# Altium schematic symbol library Analog Devices Amplifiers and Linear Comparators.SchLib: 160 symbols (part 3 of 9)
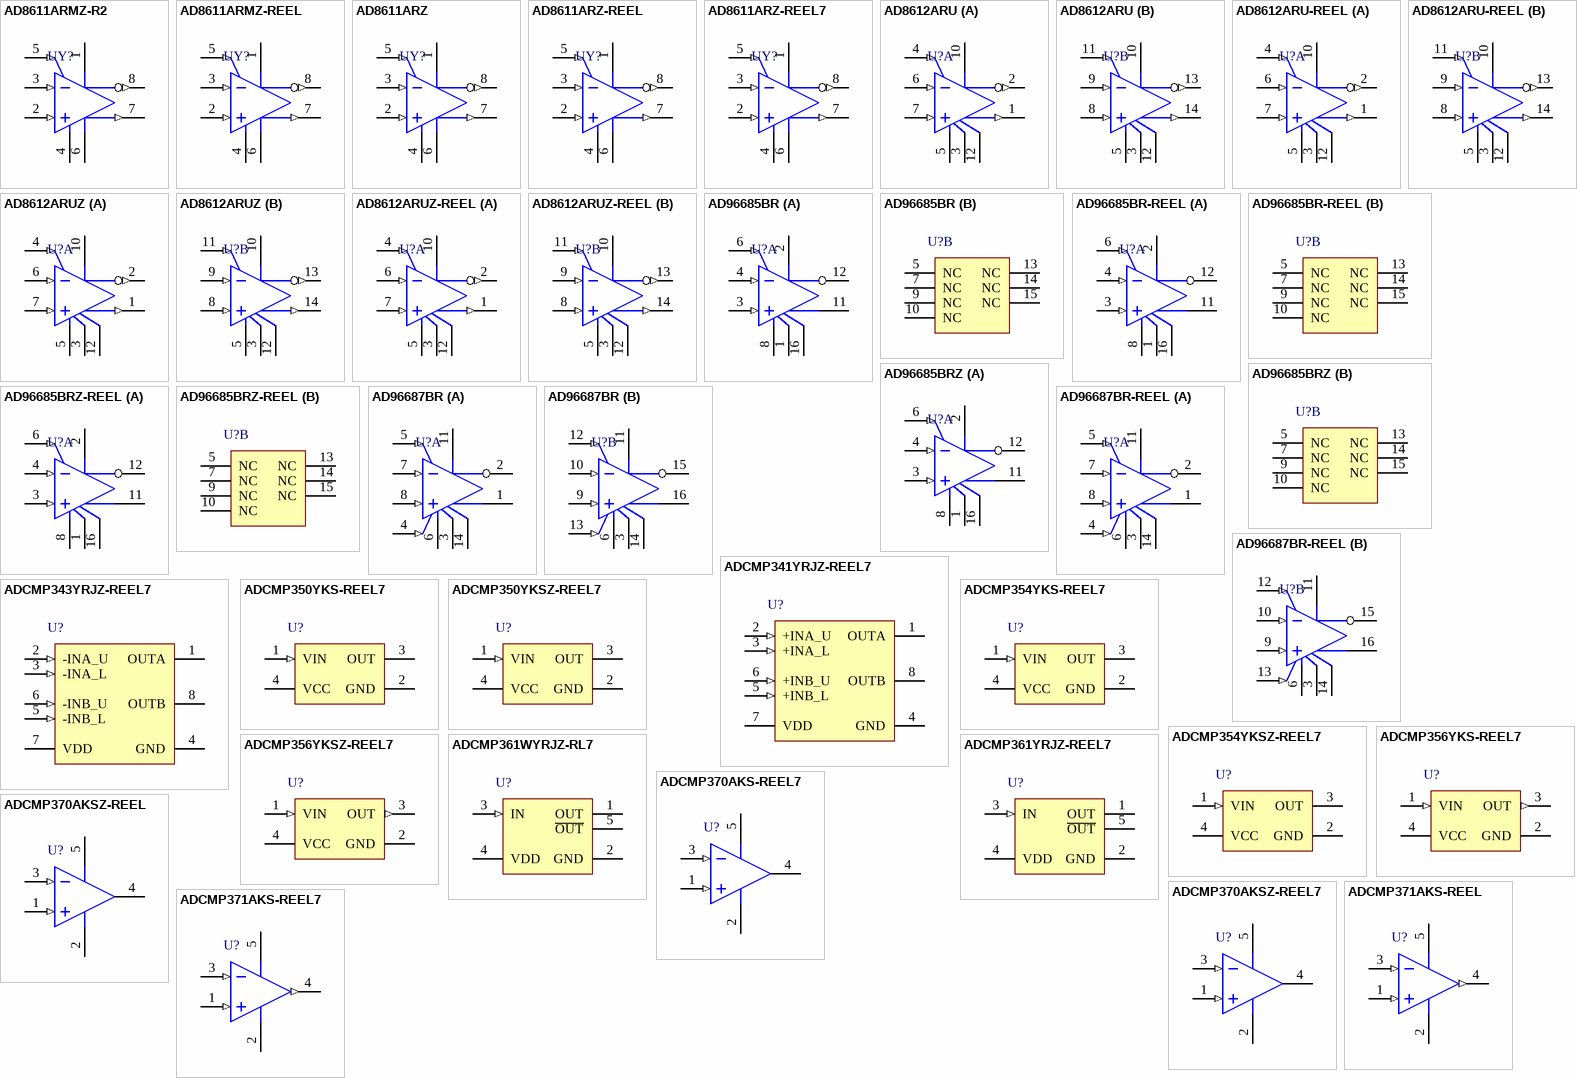
[diagram p9: symbols AD8611ARMZ-R2 to ADCMP371AKS-REEL7]

## AD96687BR
designator U?
Ultrafast Comparator, 5, - 5.2 V, 2.5 ns Delay, Commercial, 16-pin SOIC (R-16), Tube; Manufacturer: Analog Devices; PartNumber: AD96687BR; Input Range (V): -2.5 to 5.0; Voltage Supply (V): 5, -5.2; DatasheetVersion: Rev. D; PackageVersion: 060606-A, 06/2006; PackageReference: R-16; PackageDescription: 16-Pin Standard Small Outline Package, Body 9.9 x 3.9 mm, Pitch 1.27 mm; Supplier 1: Digi-Key; Supplier Part Number 1: AD96687BR-ND; Supplier 2: Mouser; Supplier Part Number 2: N/A; Packing: Tube; Mounting Technology: Surface Mount; Code_JEDEC: MS-012-AC; ComponentLink1Description: Manufacturer URL; ComponentLink1URL: http://www.analog.com/en/index.html; ComponentLink2Description: Datasheet; ComponentLink2URL: http://www.analog.com/static/imported-files/data_sheets/AD96685_96687.pdf; ComponentLink3Description: Package Specification; ComponentLink3URL: http://www.analog.com/static/imported-files/packages/PKG_PDF/SOIC_Narrow%20(R)/R_16.pdf; ComponentLink4Description: URL Link1; ComponentLink4URL: Product URL:http://www.analog.com/en/special-linear-functions/comparators/ad96687/products/product.html
footprint ADI-R-16_N (SOIC, 16-Leads, Body 9.9x3.9mm, Pitch 1.27mm, IPC Medium Density)
footprint ADI-R-16_L (SOIC, 16-Leads, Body 9.9x3.9mm, Pitch 1.27mm, IPC High Density)
footprint ADI-R-16_M (SOIC, 16-Leads, Body 9.9x3.9mm, Pitch 1.27mm, IPC Low Density)
pins on every part: 3 GND (power) "One of two grounds, but primarily associated with the digital ground. Both grounds should be connected together near the comparator.", 6 VS- (power) "Negative supply terminal, nominally -5.2 V.", 11 VS+ (power) "Positive supply terminal, nominally 5.0 V.", 14 GND (power) "One of two grounds, but primarily associated with the digital ground. Both grounds should be connected together near the comparator."
part A pins: 1 Q (oe) "One of two complementary outputs. Q will be at logic HIGH if the analog voltage at the NONINVERTING INPUT is greater than the analog voltage at the INVERTING INPUT (provided the comparator is in the "compare" mode). See (See Datasheet)", 2 ~{Q} (oe) "One of two complementary outputs. Q\ will be at logic LOW if the analog voltage at the NONINVERTING INPUT is greater than the analog voltage at the INVERTING INPUT (provided the comparator is in the "compare" mode). See (See Datasheet)", 4 LATCH ENABLE (in) "In the "compare" mode (logic HIGH), the output will track changes at the input of the comparator. In the "latch" mode (logic LOW), the output will reflect the input state just prior to the comparator being placed in the (See Datasheet)", 5 ~{LATCH ENABLE} (in) "In the "compare" mode (logic LOW), the output will track changes at the input of the comparator. In the "latch" mode (logic HIGH), the output will reflect the input state just prior to the comparator being placed in the (See Datasheet)", 7 -IN (in) "Inverting analog input of the differential input stage. The INVERTING INPUT must be driven in conjunction with the NONINVERTING INPUT.", 8 +IN (in) "Noninverting analog input of the differential input stage. The NONINVERTING INPUT must be driven in conjunction with the INVERTING INPUT."
part B pins: 9 +IN (in) "Noninverting analog input of the differential input stage. The NONINVERTING INPUT must be driven in conjunction with the INVERTING INPUT.", 10 -IN (in) "Inverting analog input of the differential input stage. The INVERTING INPUT must be driven in conjunction with the NONINVERTING INPUT.", 12 ~{LATCH ENABLE} (in) "In the "compare" mode (logic LOW), the output will track changes at the input of the comparator. In the "latch" mode (logic HIGH), the output will reflect the input state just prior to the comparator being placed in the (See Datasheet)", 13 LATCH ENABLE (in) "In the "compare" mode (logic HIGH), the output will track changes at the input of the comparator. In the "latch" mode (logic LOW), the output will reflect the input state just prior to the comparator being placed in the (See Datasheet)", 15 ~{Q} (oe) "One of two complementary outputs. Q\ will be at logic LOW if the analog voltage at the NONINVERTING INPUT is greater than the analog voltage at the INVERTING INPUT (provided the comparator is in the "compare" mode). See (See Datasheet)", 16 Q (oe) "One of two complementary outputs. Q will be at logic HIGH if the analog voltage at the NONINVERTING INPUT is greater than the analog voltage at the INVERTING INPUT (provided the comparator is in the "compare" mode). See (See Datasheet)"

## AD96687BR-REEL
designator U?
Ultrafast Comparator, 5, - 5.2 V, 2.5 ns Delay, Commercial, 16-pin SOIC (R-16), Reel; Manufacturer: Analog Devices; PartNumber: AD96687BR-REEL; Input Range (V): -2.5 to 5.0; Voltage Supply (V): 5, -5.2; DatasheetVersion: Rev. D; PackageVersion: 060606-A, 06/2006; PackageReference: R-16; PackageDescription: 16-Pin Standard Small Outline Package, Body 9.9 x 3.9 mm, Pitch 1.27 mm; Supplier 1: Digi-Key; Supplier Part Number 1: AD96687BR-REEL-ND; Supplier 2: Mouser; Supplier Part Number 2: N/A; Packing: Reel; Mounting Technology: Surface Mount; Code_JEDEC: MS-012-AC; ComponentLink1Description: Manufacturer URL; ComponentLink1URL: http://www.analog.com/en/index.html; ComponentLink2Description: Datasheet; ComponentLink2URL: http://www.analog.com/static/imported-files/data_sheets/AD96685_96687.pdf; ComponentLink3Description: Package Specification; ComponentLink3URL: http://www.analog.com/static/imported-files/packages/PKG_PDF/SOIC_Narrow%20(R)/R_16.pdf; ComponentLink4Description: URL Link1; ComponentLink4URL: Product URL:http://www.analog.com/en/special-linear-functions/comparators/ad96687/products/product.html
footprint ADI-R-16_N (SOIC, 16-Leads, Body 9.9x3.9mm, Pitch 1.27mm, IPC Medium Density)
footprint ADI-R-16_L (SOIC, 16-Leads, Body 9.9x3.9mm, Pitch 1.27mm, IPC High Density)
footprint ADI-R-16_M (SOIC, 16-Leads, Body 9.9x3.9mm, Pitch 1.27mm, IPC Low Density)
pins on every part: 3 GND (power) "One of two grounds, but primarily associated with the digital ground. Both grounds should be connected together near the comparator.", 6 VS- (power) "Negative supply terminal, nominally -5.2 V.", 11 VS+ (power) "Positive supply terminal, nominally 5.0 V.", 14 GND (power) "One of two grounds, but primarily associated with the digital ground. Both grounds should be connected together near the comparator."
part A pins: 1 Q (oe) "One of two complementary outputs. Q will be at logic HIGH if the analog voltage at the NONINVERTING INPUT is greater than the analog voltage at the INVERTING INPUT (provided the comparator is in the "compare" mode). See (See Datasheet)", 2 ~{Q} (oe) "One of two complementary outputs. Q\ will be at logic LOW if the analog voltage at the NONINVERTING INPUT is greater than the analog voltage at the INVERTING INPUT (provided the comparator is in the "compare" mode). See (See Datasheet)", 4 LATCH ENABLE (in) "In the "compare" mode (logic HIGH), the output will track changes at the input of the comparator. In the "latch" mode (logic LOW), the output will reflect the input state just prior to the comparator being placed in the (See Datasheet)", 5 ~{LATCH ENABLE} (in) "In the "compare" mode (logic LOW), the output will track changes at the input of the comparator. In the "latch" mode (logic HIGH), the output will reflect the input state just prior to the comparator being placed in the (See Datasheet)", 7 -IN (in) "Inverting analog input of the differential input stage. The INVERTING INPUT must be driven in conjunction with the NONINVERTING INPUT.", 8 +IN (in) "Noninverting analog input of the differential input stage. The NONINVERTING INPUT must be driven in conjunction with the INVERTING INPUT."
part B pins: 9 +IN (in) "Noninverting analog input of the differential input stage. The NONINVERTING INPUT must be driven in conjunction with the INVERTING INPUT.", 10 -IN (in) "Inverting analog input of the differential input stage. The INVERTING INPUT must be driven in conjunction with the NONINVERTING INPUT.", 12 ~{LATCH ENABLE} (in) "In the "compare" mode (logic LOW), the output will track changes at the input of the comparator. In the "latch" mode (logic HIGH), the output will reflect the input state just prior to the comparator being placed in the (See Datasheet)", 13 LATCH ENABLE (in) "In the "compare" mode (logic HIGH), the output will track changes at the input of the comparator. In the "latch" mode (logic LOW), the output will reflect the input state just prior to the comparator being placed in the (See Datasheet)", 15 ~{Q} (oe) "One of two complementary outputs. Q\ will be at logic LOW if the analog voltage at the NONINVERTING INPUT is greater than the analog voltage at the INVERTING INPUT (provided the comparator is in the "compare" mode). See (See Datasheet)", 16 Q (oe) "One of two complementary outputs. Q will be at logic HIGH if the analog voltage at the NONINVERTING INPUT is greater than the analog voltage at the INVERTING INPUT (provided the comparator is in the "compare" mode). See (See Datasheet)"

## ADCMP341YRJZ-REEL7
designator U?
Dual 0.275% Comparator and Reference with Programmable Hysteresis, 1.7 to 5.5 V, 10 us Delay, Commercial, 8-pin SOT23 (RJ-8), Reel; Manufacturer: Analog Devices; PartNumber: ADCMP341YRJZ-REEL7; Internal Reference: Yes; Supply Current: 6.5 to 7uA; DatasheetVersion: Rev. 0; PackageVersion: 121608-A, 12/2008; PackageReference: RJ-8; PackageDescription: 8-Pin Small Outline Transistor Package, Body 2.9 x 1.6 mm, Pitch 0.65 mm; Supplier 1: Digi-Key; Supplier Part Number 1: ADCMP341YRJZ-REEL7TR-ND; Supplier 2: Digi-Key; Supplier Part Number 2: ADCMP341YRJZ-REEL7CT-ND; Supplier 3: Digi-Key; Supplier Part Number 3: ADCMP341YRJZ-REEL7DKR-ND; Supplier 4: Mouser; Supplier Part Number 4: 584-ADCMP341YRJZR7; Packing: Reel; Voltage Supply (V): 1.7 to 5.5; Mounting Technology: Surface Mount; Code_JEDEC: MO-178-BA; ComponentLink1Description: Manufacturer URL; ComponentLink1URL: http://www.analog.com/en/index.html; ComponentLink2Description: Datasheet; ComponentLink2URL: http://www.analog.com/static/imported-files/data_sheets/ADCMP341_343.pdf; ComponentLink3Description: Package Specification; ComponentLink3URL: http://www.analog.com/static/imported-files/packages/PKG_PDF/SOT-23(RJ)/RJ_8.pdf; ComponentLink4Description: URL Link1; ComponentLink4URL: Product URL:http://www.analog.com/en/special-linear-functions/comparators/adcmp341/products/product.html
footprint ADI-RJ-8_V (SOT23, 8-Leads, Body 2.9x1.6mm, Pitch 0.65mm)
pins: 1 OUTA (oc) "Open-Drain Output for Comparator A.", 2 +INA_U (in) "Monitors Analog Input Voltage on Comparator A. Connect to the upper tap point of the resistor string. Connect internally to the noninverting input on the ADCMP341 or the inverting pin on the ADCMP343 via a mux controlled by (See Datasheet)", 3 +INA_L (in) "Monitors Analog Input Voltage on Comparator A. Connect to the lower tap point of the resistor string. Connect internally to the noninverting input on the ADCMP341 or the inverting pin on the ADCMP343 via a mux controlled by (See Datasheet)", 4 GND (power) "Ground.", 5 +INB_L (in) "Monitors Analog Input Voltage on Comparator B. Connect to the lower tap point of the resistor string. Connect internally to the noninverting input on the ADCMP341 or the inverting pin on the ADCMP343 via a mux controlled by (See Datasheet)", 6 +INB_U (in) "Monitors Analog Input Voltage on Comparator B. Connect to the upper tap point of the resistor string. Connect internally to the noninverting input on the ADCMP341 or the inverting pin on the ADCMP343 via a mux controlled by (See Datasheet)", 7 VDD (power) "Power Supply Pin.", 8 OUTB (oc) "Open-Drain Output for Comparator B."

## ADCMP343YRJZ-REEL7
designator U?
Dual 0.275% Comparator and Reference with Programmable Hysteresis, 1.7 to 5.5 V, 10 us Delay, Commercial, 8-pin SOT23 (RJ-8), Reel; Manufacturer: Analog Devices; PartNumber: ADCMP343YRJZ-REEL7; Internal Reference: Yes; Supply Current: 6.5 to 7uA; DatasheetVersion: Rev. 0; PackageVersion: 121608-A, 12/2008; PackageReference: RJ-8; PackageDescription: 8-Pin Small Outline Transistor Package, Body 2.9 x 1.6 mm, Pitch 0.65 mm; Supplier 1: Digi-Key; Supplier Part Number 1: ADCMP343YRJZ-REEL7TR-ND; Supplier 2: Digi-Key; Supplier Part Number 2: ADCMP343YRJZ-REEL7CT-ND; Supplier 3: Digi-Key; Supplier Part Number 3: ADCMP343YRJZ-REEL7DKR-ND; Supplier 4: Farnell; Supplier Part Number 4: 1838894; Supplier 5: Mouser; Supplier Part Number 5: 584-ADCMP343YRJZR7; Packing: Reel; Voltage Supply (V): 1.7 to 5.5; Mounting Technology: Surface Mount; Code_JEDEC: MO-178-BA; ComponentLink1Description: Manufacturer URL; ComponentLink1URL: http://www.analog.com/en/index.html; ComponentLink2Description: Datasheet; ComponentLink2URL: http://www.analog.com/static/imported-files/data_sheets/ADCMP341_343.pdf; ComponentLink3Description: Package Specification; ComponentLink3URL: http://www.analog.com/static/imported-files/packages/PKG_PDF/SOT-23(RJ)/RJ_8.pdf; ComponentLink4Description: URL Link1; ComponentLink4URL: Product URL:http://www.analog.com/en/special-linear-functions/comparators/adcmp343/products/product.html
footprint ADI-RJ-8_V (SOT23, 8-Leads, Body 2.9x1.6mm, Pitch 0.65mm)
pins: 1 OUTA (oc) "Open-Drain Output for Comparator A.", 2 -INA_U (in) "Monitors Analog Input Voltage on Comparator A. Connect to the upper tap point of the resistor string. Connect internally to the noninverting input on the ADCMP341 or the inverting pin on the ADCMP343 via a mux controlled by (See Datasheet)", 3 -INA_L (in) "Monitors Analog Input Voltage on Comparator A. Connect to the lower tap point of the resistor string. Connect internally to the noninverting input on the ADCMP341 or the inverting pin on the ADCMP343 via a mux controlled by (See Datasheet)", 4 GND (power) "Ground.", 5 -INB_L (in) "Monitors Analog Input Voltage on Comparator B. Connect to the lower tap point of the resistor string. Connect internally to the noninverting input on the ADCMP341 or the inverting pin on the ADCMP343 via a mux controlled by (See Datasheet)", 6 -INB_U (in) "Monitors Analog Input Voltage on Comparator B. Connect to the upper tap point of the resistor string. Connect internally to the noninverting input on the ADCMP341 or the inverting pin on the ADCMP343 via a mux controlled by (See Datasheet)", 7 VDD (power) "Power Supply Pin.", 8 OUTB (oc) "Open-Drain Output for Comparator B."

## ADCMP350YKS-REEL7
designator U?
Low Power Comparator, 2.25 to 5.5 V, 5 us Delay, Industrial, 4-pin SOT143_343 (KS-4), Reel; Manufacturer: Analog Devices; PartNumber: ADCMP350YKS-REEL7; Input Range (V): 0 to 22; Internal Reference: Yes; Supply Current: 10uA; DatasheetVersion: Rev. B; PackageVersion: 072809-A, 07/2009; PackageReference: KS-4; PackageDescription: 4-Pin Thin Shrink Small Outline Transistor Package, Body 2 x 1.25 mm, Pitch 1.3 mm; Supplier 1: Digi-Key; Supplier Part Number 1: ADCMP350YKS-REEL7TR-ND; Supplier 2: Digi-Key; Supplier Part Number 2: ADCMP350YKS-REEL7CT-ND; Supplier 3: Digi-Key; Supplier Part Number 3: ADCMP350YKS-REEL7DKR-ND; Supplier 4: Mouser; Supplier Part Number 4: 584-ADCMP350YKS-R7; Packing: Reel; Voltage Supply (V): 2.25 to 5.5; Mounting Technology: Surface Mount; ComponentLink1Description: Manufacturer URL; ComponentLink1URL: http://www.analog.com/en/index.html; ComponentLink2Description: Datasheet; ComponentLink2URL: http://www.analog.com/static/imported-files/data_sheets/ADCMP350_354_356.pdf; ComponentLink3Description: Package Specification; ComponentLink3URL: http:/www.analog.com/static/imported-files/packages/PKG_PDF/SC70(KS)/KS_4.pdf; ComponentLink4Description: URL Link1; ComponentLink4URL: Product URL:http://www.analog.com/en/special-linear-functions/comparators/adcmp350/products/product.html; ComponentLink5Description: URL Link2; ComponentLink5URL: Reference Circuit:http://www.analog.com/en/special-linear-functions/comparators/adcmp350/products/product.html#product-recommendations
footprint ADI-KS-4_N (SOT143_343, 4-Leads, Body 2x1.25mm, Pitch 1.3mm, IPC Medium Density)
footprint ADI-KS-4_L (SOT143_343, 4-Leads, Body 2x1.25mm, Pitch 1.3mm, IPC High Density)
footprint ADI-KS-4_M (SOT143_343, 4-Leads, Body 2x1.25mm, Pitch 1.3mm, IPC Low Density)
pins: 1 VIN (in) "Monitors Analog Input Voltage. Connected to inverting or noninverting input depending on the model number.", 2 GND (power) "Ground.", 3 OUT (oc) "Digital Output. Open-drain or push-pull options depending on the model number.", 4 VCC (power) "Power Supply."

## ADCMP350YKSZ-REEL7
designator U?
Low Power Comparator, 2.25 to 5.5 V, 5 us Delay, Industrial, 4-pin SOT143_343 (KS-4), Reel; Manufacturer: Analog Devices; PartNumber: ADCMP350YKSZ-REEL7; Input Range (V): 0 to 22; Internal Reference: Yes; Supply Current: 10uA; DatasheetVersion: Rev. B; PackageVersion: 072809-A, 07/2009; PackageReference: KS-4; PackageDescription: 4-Pin Thin Shrink Small Outline Transistor Package, Body 2 x 1.25 mm, Pitch 1.3 mm; Supplier 1: Digi-Key; Supplier Part Number 1: ADCMP350YKSZ-REEL7TR-ND; Supplier 2: Digi-Key; Supplier Part Number 2: ADCMP350YKSZ-REEL7CT-ND; Supplier 3: Digi-Key; Supplier Part Number 3: ADCMP350YKSZ-REEL7DKR-ND; Supplier 4: Farnell; Supplier Part Number 4: 2376802; Supplier 5: Farnell; Supplier Part Number 5: 2312826; Supplier 6: Farnell; Supplier Part Number 6: 2370356; Supplier 7: Mouser; Supplier Part Number 7: 584-ADCMP350YKSZR7; Packing: Reel; Voltage Supply (V): 2.25 to 5.5; Mounting Technology: Surface Mount; ComponentLink1Description: Manufacturer URL; ComponentLink1URL: http://www.analog.com/en/index.html; ComponentLink2Description: Datasheet; ComponentLink2URL: http://www.analog.com/static/imported-files/data_sheets/ADCMP350_354_356.pdf; ComponentLink3Description: Package Specification; ComponentLink3URL: http:/www.analog.com/static/imported-files/packages/PKG_PDF/SC70(KS)/KS_4.pdf; ComponentLink4Description: URL Link1; ComponentLink4URL: Product URL:http://www.analog.com/en/special-linear-functions/comparators/adcmp350/products/product.html; ComponentLink5Description: URL Link2; ComponentLink5URL: Reference Circuit:http://www.analog.com/en/special-linear-functions/comparators/adcmp350/products/product.html#product-recommendations
footprint ADI-KS-4_N (SOT143_343, 4-Leads, Body 2x1.25mm, Pitch 1.3mm, IPC Medium Density)
footprint ADI-KS-4_L (SOT143_343, 4-Leads, Body 2x1.25mm, Pitch 1.3mm, IPC High Density)
footprint ADI-KS-4_M (SOT143_343, 4-Leads, Body 2x1.25mm, Pitch 1.3mm, IPC Low Density)
pins: 1 VIN (in) "Monitors Analog Input Voltage. Connected to inverting or noninverting input depending on the model number.", 2 GND (power) "Ground.", 3 OUT (oc) "Digital Output. Open-drain or push-pull options depending on the model number.", 4 VCC (power) "Power Supply."

## ADCMP354YKS-REEL7
designator U?
Low Power Comparator, 2.25 to 5.5 V, 5 us Delay, Industrial, 4-pin SOT143_343 (KS-4), Reel; Manufacturer: Analog Devices; PartNumber: ADCMP354YKS-REEL7; Input Range (V): 0 to 22; Internal Reference: Yes; Supply Current: 10uA; DatasheetVersion: Rev. B; PackageVersion: 072809-A, 07/2009; PackageReference: KS-4; PackageDescription: 4-Pin Thin Shrink Small Outline Transistor Package, Body 2 x 1.25 mm, Pitch 1.3 mm; Supplier 1: Digi-Key; Supplier Part Number 1: ADCMP354YKS-REEL7TR-ND; Supplier 2: Digi-Key; Supplier Part Number 2: ADCMP354YKS-REEL7CT-ND; Supplier 3: Digi-Key; Supplier Part Number 3: ADCMP354YKS-REEL7DKR-ND; Supplier 4: Mouser; Supplier Part Number 4: 584-ADCMP354YKS-R7; Packing: Reel; Voltage Supply (V): 2.25 to 5.5; Mounting Technology: Surface Mount; ComponentLink1Description: Manufacturer URL; ComponentLink1URL: http://www.analog.com/en/index.html; ComponentLink2Description: Datasheet; ComponentLink2URL: http://www.analog.com/static/imported-files/data_sheets/ADCMP350_354_356.pdf; ComponentLink3Description: Package Specification; ComponentLink3URL: http:/www.analog.com/static/imported-files/packages/PKG_PDF/SC70(KS)/KS_4.pdf; ComponentLink4Description: URL Link1; ComponentLink4URL: Product URL:http://www.analog.com/en/special-linear-functions/comparators/adcmp354/products/product.html
footprint ADI-KS-4_N (SOT143_343, 4-Leads, Body 2x1.25mm, Pitch 1.3mm, IPC Medium Density)
footprint ADI-KS-4_L (SOT143_343, 4-Leads, Body 2x1.25mm, Pitch 1.3mm, IPC High Density)
footprint ADI-KS-4_M (SOT143_343, 4-Leads, Body 2x1.25mm, Pitch 1.3mm, IPC Low Density)
pins: 1 VIN (in) "Monitors Analog Input Voltage. Connected to inverting or noninverting input depending on the model number.", 2 GND (power) "Ground.", 3 OUT (oc) "Digital Output. Open-drain or push-pull options depending on the model number.", 4 VCC (power) "Power Supply."

## ADCMP354YKSZ-REEL7
designator U?
Low Power Comparator, 2.25 to 5.5 V, 5 us Delay, Industrial, 4-pin SOT143_343 (KS-4), Reel; Manufacturer: Analog Devices; PartNumber: ADCMP354YKSZ-REEL7; Input Range (V): 0 to 22; Internal Reference: Yes; Supply Current: 10uA; DatasheetVersion: Rev. B; PackageVersion: 072809-A, 07/2009; PackageReference: KS-4; PackageDescription: 4-Pin Thin Shrink Small Outline Transistor Package, Body 2 x 1.25 mm, Pitch 1.3 mm; Supplier 1: Digi-Key; Supplier Part Number 1: ADCMP354YKSZ-REEL7TR-ND; Supplier 2: Digi-Key; Supplier Part Number 2: ADCMP354YKSZ-REEL7CT-ND; Supplier 3: Digi-Key; Supplier Part Number 3: ADCMP354YKSZ-REEL7DKR-ND; Supplier 4: Farnell; Supplier Part Number 4: 2376803; Supplier 5: Mouser; Supplier Part Number 5: 584-ADCMP354YKSZR7; Packing: Reel; Voltage Supply (V): 2.25 to 5.5; Mounting Technology: Surface Mount; ComponentLink1Description: Manufacturer URL; ComponentLink1URL: http://www.analog.com/en/index.html; ComponentLink2Description: Datasheet; ComponentLink2URL: http://www.analog.com/static/imported-files/data_sheets/ADCMP350_354_356.pdf; ComponentLink3Description: Package Specification; ComponentLink3URL: http:/www.analog.com/static/imported-files/packages/PKG_PDF/SC70(KS)/KS_4.pdf; ComponentLink4Description: URL Link1; ComponentLink4URL: Product URL:http://www.analog.com/en/special-linear-functions/comparators/adcmp354/products/product.html
footprint ADI-KS-4_N (SOT143_343, 4-Leads, Body 2x1.25mm, Pitch 1.3mm, IPC Medium Density)
footprint ADI-KS-4_L (SOT143_343, 4-Leads, Body 2x1.25mm, Pitch 1.3mm, IPC High Density)
footprint ADI-KS-4_M (SOT143_343, 4-Leads, Body 2x1.25mm, Pitch 1.3mm, IPC Low Density)
pins: 1 VIN (in) "Monitors Analog Input Voltage. Connected to inverting or noninverting input depending on the model number.", 2 GND (power) "Ground.", 3 OUT (oc) "Digital Output. Open-drain or push-pull options depending on the model number.", 4 VCC (power) "Power Supply."

## ADCMP356YKS-REEL7
designator U?
Low Power Comparator, 2.25 to 5.5 V, 5 us Delay, Industrial, 4-pin SOT143_343 (KS-4), Reel; Manufacturer: Analog Devices; PartNumber: ADCMP356YKS-REEL7; Input Range (V): 0 to 22; Internal Reference: Yes; Supply Current: 10uA; DatasheetVersion: Rev. B; PackageVersion: 072809-A, 07/2009; PackageReference: KS-4; PackageDescription: 4-Pin Thin Shrink Small Outline Transistor Package, Body 2 x 1.25 mm, Pitch 1.3 mm; Supplier 1: Digi-Key; Supplier Part Number 1: ADCMP356YKS-REEL7TR-ND; Supplier 2: Digi-Key; Supplier Part Number 2: ADCMP356YKS-REEL7CT-ND; Supplier 3: Digi-Key; Supplier Part Number 3: ADCMP356YKS-REEL7DKR-ND; Supplier 4: Mouser; Supplier Part Number 4: 584-ADCMP356YKS-R7; Packing: Reel; Voltage Supply (V): 2.25 to 5.5; Mounting Technology: Surface Mount; ComponentLink1Description: Manufacturer URL; ComponentLink1URL: http://www.analog.com/en/index.html; ComponentLink2Description: Datasheet; ComponentLink2URL: http://www.analog.com/static/imported-files/data_sheets/ADCMP350_354_356.pdf; ComponentLink3Description: Package Specification; ComponentLink3URL: http:/www.analog.com/static/imported-files/packages/PKG_PDF/SC70(KS)/KS_4.pdf; ComponentLink4Description: URL Link1; ComponentLink4URL: Product URL:http://www.analog.com/en/special-linear-functions/comparators/adcmp356/products/product.html
footprint ADI-KS-4_N (SOT143_343, 4-Leads, Body 2x1.25mm, Pitch 1.3mm, IPC Medium Density)
footprint ADI-KS-4_L (SOT143_343, 4-Leads, Body 2x1.25mm, Pitch 1.3mm, IPC High Density)
footprint ADI-KS-4_M (SOT143_343, 4-Leads, Body 2x1.25mm, Pitch 1.3mm, IPC Low Density)
pins: 1 VIN (in) "Monitors Analog Input Voltage. Connected to inverting or noninverting input depending on the model number.", 2 GND (power) "Ground.", 3 OUT (out) "Digital Output. Open-drain or push-pull options depending on the model number.", 4 VCC (power) "Power Supply."

## ADCMP356YKSZ-REEL7
designator U?
Low Power Comparator, 2.25 to 5.5 V, 5 us Delay, Industrial, 4-pin SOT143_343 (KS-4), Reel; Manufacturer: Analog Devices; PartNumber: ADCMP356YKSZ-REEL7; Input Range (V): 0 to 22; Internal Reference: Yes; Supply Current: 10uA; DatasheetVersion: Rev. B; PackageVersion: 072809-A, 07/2009; PackageReference: KS-4; PackageDescription: 4-Pin Thin Shrink Small Outline Transistor Package, Body 2 x 1.25 mm, Pitch 1.3 mm; Supplier 1: Digi-Key; Supplier Part Number 1: ADCMP356YKSZ-REEL7TR-ND; Supplier 2: Digi-Key; Supplier Part Number 2: ADCMP356YKSZ-REEL7CT-ND; Supplier 3: Digi-Key; Supplier Part Number 3: ADCMP356YKSZ-REEL7DKR-ND; Supplier 4: Farnell; Supplier Part Number 4: 2312828; Supplier 5: Mouser; Supplier Part Number 5: 584-ADCMP356YKSZR7; Packing: Reel; Voltage Supply (V): 2.25 to 5.5; Mounting Technology: Surface Mount; ComponentLink1Description: Manufacturer URL; ComponentLink1URL: http://www.analog.com/en/index.html; ComponentLink2Description: Datasheet; ComponentLink2URL: http://www.analog.com/static/imported-files/data_sheets/ADCMP350_354_356.pdf; ComponentLink3Description: Package Specification; ComponentLink3URL: http:/www.analog.com/static/imported-files/packages/PKG_PDF/SC70(KS)/KS_4.pdf; ComponentLink4Description: URL Link1; ComponentLink4URL: Product URL:http://www.analog.com/en/special-linear-functions/comparators/adcmp356/products/product.html
footprint ADI-KS-4_N (SOT143_343, 4-Leads, Body 2x1.25mm, Pitch 1.3mm, IPC Medium Density)
footprint ADI-KS-4_L (SOT143_343, 4-Leads, Body 2x1.25mm, Pitch 1.3mm, IPC High Density)
footprint ADI-KS-4_M (SOT143_343, 4-Leads, Body 2x1.25mm, Pitch 1.3mm, IPC Low Density)
pins: 1 VIN (in) "Monitors Analog Input Voltage. Connected to inverting or noninverting input depending on the model number.", 2 GND (power) "Ground.", 3 OUT (out) "Digital Output. Open-drain or push-pull options depending on the model number.", 4 VCC (power) "Power Supply."

## ADCMP361WYRJZ-RL7
designator U?
Single 0.275% Comparator and Reference with Dual Polarity Outputs, 1.7 to 5.5 V, 5 us Delay, Commercial, 5-pin SOT23 (RJ-5), Reel; Manufacturer: Analog Devices; PartNumber: ADCMP361WYRJZ-RL7; Internal Reference: Yes; Supply Current: 6.5 to 7uA; DatasheetVersion: Rev. A; PackageVersion: 121608-A , 12/2008; PackageReference: RJ-5; PackageDescription: 5-Pin Small Outline Transistor Package, Body 2.9 x 1.6 mm, Pitch 0.95 mm; Supplier 1: Digi-Key; Supplier Part Number 1: ADCMP361WYRJZ-RL7TR-ND; Supplier 2: Digi-Key; Supplier Part Number 2: ADCMP361WYRJZ-RL7CT-ND; Supplier 3: Digi-Key; Supplier Part Number 3: ADCMP361WYRJZ-RL7DKR-ND; Supplier 4: Mouser; Supplier Part Number 4: 584-ADCMP361WYRJZ-R7; Packing: Reel; Voltage Supply (V): 1.7 to 5.5; Mounting Technology: Surface Mount; Code_JEDEC: MO-178-AA; ComponentLink1Description: Manufacturer URL; ComponentLink1URL: http://www.analog.com/en/index.html; ComponentLink2Description: Datasheet; ComponentLink2URL: http://www.analog.com/static/imported-files/data_sheets/ADCMP361.pdf; ComponentLink3Description: Package Specification; ComponentLink3URL: http://www.analog.com/static/imported-files/packages/PKG_PDF/SOT-23(RJ)/RJ_5.pdf; ComponentLink4Description: URL Link1; ComponentLink4URL: Product URL:http://www.analog.com/en/special-linear-functions/comparators/adcmp361/products/product.html
footprint ADI-RJ-5_N (SOT-23, 5-Leads, Body 2.9x1.6mm, Pitch 0.95mm, IPC Medium Density)
footprint ADI-RJ-5_L (SOT-23, 5-Leads, Body 2.9x1.6mm, Pitch 0.95mm, IPC High Density)
footprint ADI-RJ-5_M (SOT-23, 5-Leads, Body 2.9x1.6mm, Pitch 0.95mm, IPC Low Density)
pins: 1 OUT (oc) "Noninverting Open-Drain Output.", 2 GND (power) "Ground.", 3 IN (in) "Monitors analog input voltage on comparator. The other input of the comparator is connected to a 400 mV reference.", 4 VDD (power) "Power Supply.", 5 ~{OUT} (oc) "Inverting Open-Drain Output."

## ADCMP361YRJZ-REEL7
designator U?
Single 0.275% Comparator and Reference with Dual Polarity Outputs, 1.7 to 5.5 V, 5 us Delay, Commercial, 5-pin SOT23 (RJ-5), Reel; Manufacturer: Analog Devices; PartNumber: ADCMP361YRJZ-REEL7; Internal Reference: Yes; Supply Current: 6.5 to 7uA; DatasheetVersion: Rev. A; PackageVersion: 121608-A , 12/2008; PackageReference: RJ-5; PackageDescription: 5-Pin Small Outline Transistor Package, Body 2.9 x 1.6 mm, Pitch 0.95 mm; Supplier 1: Digi-Key; Supplier Part Number 1: ADCMP361YRJZ-REEL7TR-ND; Supplier 2: Digi-Key; Supplier Part Number 2: ADCMP361YRJZ-REEL7CT-ND; Supplier 3: Digi-Key; Supplier Part Number 3: ADCMP361YRJZ-REEL7DKR-ND; Supplier 4: Farnell; Supplier Part Number 4: 2376804; Supplier 5: Farnell; Supplier Part Number 5: 1571257; Supplier 6: Mouser; Supplier Part Number 6: 584-ADCMP361YRJZR7; Packing: Reel; Voltage Supply (V): 1.7 to 5.5; Mounting Technology: Surface Mount; Code_JEDEC: MO-178-AA; ComponentLink1Description: Manufacturer URL; ComponentLink1URL: http://www.analog.com/en/index.html; ComponentLink2Description: Datasheet; ComponentLink2URL: http://www.analog.com/static/imported-files/data_sheets/ADCMP361.pdf; ComponentLink3Description: Package Specification; ComponentLink3URL: http://www.analog.com/static/imported-files/packages/PKG_PDF/SOT-23(RJ)/RJ_5.pdf; ComponentLink4Description: URL Link1; ComponentLink4URL: Product URL:http://www.analog.com/en/special-linear-functions/comparators/adcmp361/products/product.html
footprint ADI-RJ-5_N (SOT-23, 5-Leads, Body 2.9x1.6mm, Pitch 0.95mm, IPC Medium Density)
footprint ADI-RJ-5_L (SOT-23, 5-Leads, Body 2.9x1.6mm, Pitch 0.95mm, IPC High Density)
footprint ADI-RJ-5_M (SOT-23, 5-Leads, Body 2.9x1.6mm, Pitch 0.95mm, IPC Low Density)
pins: 1 OUT (oc) "Noninverting Open-Drain Output.", 2 GND (power) "Ground.", 3 IN (in) "Monitors analog input voltage on comparator. The other input of the comparator is connected to a 400 mV reference.", 4 VDD (power) "Power Supply.", 5 ~{OUT} (oc) "Inverting Open-Drain Output."

## ADCMP370AKS-REEL7
designator U?
General-Purpose Comparator, 2.25 to 5.5 V, 5 us Delay, Industrial, 5-pin SOT23 (KS-5), Reel; Manufacturer: Analog Devices; PartNumber: ADCMP370AKS-REEL7; Input Range (V): 0 to VCC; Supply Current: 4uA; DatasheetVersion: Rev. B; PackageVersion: 072809-A, 07/2009; PackageReference: KS-5; PackageDescription: 5-Pin Thin Shrink Small Outline Transistor Package, Body 2 x 1.25 mm, Pitch 0.65 mm; Supplier 1: Digi-Key; Supplier Part Number 1: ADCMP370AKS-REEL7TR-ND; Supplier 2: Digi-Key; Supplier Part Number 2: ADCMP370AKS-REEL7CT-ND; Supplier 3: Digi-Key; Supplier Part Number 3: ADCMP370AKS-REEL7DKR-ND; Supplier 4: Mouser; Supplier Part Number 4: 584-ADCMP370AKS-R7; Packing: Reel; Voltage Supply (V): 2.25 to 5.5; Mounting Technology: Surface Mount; Code_JEDEC: MO-203-AA; ComponentLink1Description: Manufacturer URL; ComponentLink1URL: http://www.analog.com/en/index.html; ComponentLink2Description: Datasheet; ComponentLink2URL: http://www.analog.com/static/imported-files/data_sheets/ADCMP370_371.pdf; ComponentLink3Description: Package Specification; ComponentLink3URL: http://www.analog.com/static/imported-files/packages/PKG_PDF/SC70(KS)/KS_5.pdf; ComponentLink4Description: URL Link1; ComponentLink4URL: Product URL:http://www.analog.com/en/special-linear-functions/comparators/adcmp370/products/product.html; ComponentLink5Description: URL Link2; ComponentLink5URL: Reference Circuit:http://www.analog.com/en/special-linear-functions/comparators/adcmp370/products/product.html#product-recommendations
footprint ADI-KS-5_N (SOT23, 5-Leads, Body 2x1.25mm, Pitch 0.65mm, IPC Medium Density)
footprint ADI-KS-5_L (SOT23, 5-Leads, Body 2x1.25mm, Pitch 0.65mm, IPC High Density)
footprint ADI-KS-5_M (SOT23, 5-Leads, Body 2x1.25mm, Pitch 0.65mm, IPC Low Density)
pins: 1 IN+ (in) "Noninverting Input.", 2 GND (power) "Ground.", 3 IN- (in) "Inverting Input.", 4 OUT (oc) "Comparator Output. Open drain for ADCMP370. Push-pull for ADCMP371.", 5 VCC (power) "Power Supply."

## ADCMP370AKSZ-REEL
designator U?
General-Purpose Comparator, 2.25 to 5.5 V, 5 us Delay, Industrial, 5-pin SOT23 (KS-5), Reel; Manufacturer: Analog Devices; PartNumber: ADCMP370AKSZ-REEL; Input Range (V): 0 to VCC; Supply Current: 4uA; DatasheetVersion: Rev. B; PackageVersion: 072809-A, 07/2009; PackageReference: KS-5; PackageDescription: 5-Pin Thin Shrink Small Outline Transistor Package, Body 2 x 1.25 mm, Pitch 0.65 mm; Supplier 1: Digi-Key; Supplier Part Number 1: ADCMP370AKSZ-REEL-ND; Supplier 2: Mouser; Supplier Part Number 2: 584-ADCMP370AKSZ-R; Packing: Reel; Voltage Supply (V): 2.25 to 5.5; Mounting Technology: Surface Mount; Code_JEDEC: MO-203-AA; ComponentLink1Description: Manufacturer URL; ComponentLink1URL: http://www.analog.com/en/index.html; ComponentLink2Description: Datasheet; ComponentLink2URL: http://www.analog.com/static/imported-files/data_sheets/ADCMP370_371.pdf; ComponentLink3Description: Package Specification; ComponentLink3URL: http://www.analog.com/static/imported-files/packages/PKG_PDF/SC70(KS)/KS_5.pdf; ComponentLink4Description: URL Link1; ComponentLink4URL: Product URL:http://www.analog.com/en/special-linear-functions/comparators/adcmp370/products/product.html; ComponentLink5Description: URL Link2; ComponentLink5URL: Reference Circuit:http://www.analog.com/en/special-linear-functions/comparators/adcmp370/products/product.html#product-recommendations
footprint ADI-KS-5_N (SOT23, 5-Leads, Body 2x1.25mm, Pitch 0.65mm, IPC Medium Density)
footprint ADI-KS-5_L (SOT23, 5-Leads, Body 2x1.25mm, Pitch 0.65mm, IPC High Density)
footprint ADI-KS-5_M (SOT23, 5-Leads, Body 2x1.25mm, Pitch 0.65mm, IPC Low Density)
pins: 1 IN+ (in) "Noninverting Input.", 2 GND (power) "Ground.", 3 IN- (in) "Inverting Input.", 4 OUT (oc) "Comparator Output. Open drain for ADCMP370. Push-pull for ADCMP371.", 5 VCC (power) "Power Supply."

## ADCMP370AKSZ-REEL7
designator U?
General-Purpose Comparator, 2.25 to 5.5 V, 5 us Delay, Industrial, 5-pin SOT23 (KS-5), Reel; Manufacturer: Analog Devices; PartNumber: ADCMP370AKSZ-REEL7; Input Range (V): 0 to VCC; Supply Current: 4uA; DatasheetVersion: Rev. B; PackageVersion: 072809-A, 07/2009; PackageReference: KS-5; PackageDescription: 5-Pin Thin Shrink Small Outline Transistor Package, Body 2 x 1.25 mm, Pitch 0.65 mm; Supplier 1: Digi-Key; Supplier Part Number 1: ADCMP370AKSZ-REEL7TR-ND; Supplier 2: Digi-Key; Supplier Part Number 2: ADCMP370AKSZ-REEL7CT-ND; Supplier 3: Digi-Key; Supplier Part Number 3: ADCMP370AKSZ-REEL7DKR-ND; Supplier 4: Farnell; Supplier Part Number 4: 2074858; Supplier 5: Mouser; Supplier Part Number 5: 584-ADCMP370AKSZR7; Packing: Reel; Voltage Supply (V): 2.25 to 5.5; Mounting Technology: Surface Mount; Code_JEDEC: MO-203-AA; ComponentLink1Description: Manufacturer URL; ComponentLink1URL: http://www.analog.com/en/index.html; ComponentLink2Description: Datasheet; ComponentLink2URL: http://www.analog.com/static/imported-files/data_sheets/ADCMP370_371.pdf; ComponentLink3Description: Package Specification; ComponentLink3URL: http://www.analog.com/static/imported-files/packages/PKG_PDF/SC70(KS)/KS_5.pdf; ComponentLink4Description: URL Link1; ComponentLink4URL: Product URL:http://www.analog.com/en/special-linear-functions/comparators/adcmp370/products/product.html; ComponentLink5Description: URL Link2; ComponentLink5URL: Reference Circuit:http://www.analog.com/en/special-linear-functions/comparators/adcmp370/products/product.html#product-recommendations
footprint ADI-KS-5_N (SOT23, 5-Leads, Body 2x1.25mm, Pitch 0.65mm, IPC Medium Density)
footprint ADI-KS-5_L (SOT23, 5-Leads, Body 2x1.25mm, Pitch 0.65mm, IPC High Density)
footprint ADI-KS-5_M (SOT23, 5-Leads, Body 2x1.25mm, Pitch 0.65mm, IPC Low Density)
pins: 1 IN+ (in) "Noninverting Input.", 2 GND (power) "Ground.", 3 IN- (in) "Inverting Input.", 4 OUT (oc) "Comparator Output. Open drain for ADCMP370. Push-pull for ADCMP371.", 5 VCC (power) "Power Supply."

## ADCMP371AKS-REEL
designator U?
General-Purpose Comparator, 2.25 to 5.5 V, 5 us Delay, Industrial, 5-pin SOT23 (KS-5), Reel; Manufacturer: Analog Devices; PartNumber: ADCMP371AKS-REEL; Input Range (V): 0 to VCC; Supply Current: 4uA; DatasheetVersion: Rev. B; PackageVersion: 072809-A, 07/2009; PackageReference: KS-5; PackageDescription: 5-Pin Thin Shrink Small Outline Transistor Package, Body 2 x 1.25 mm, Pitch 0.65 mm; Supplier 1: Digi-Key; Supplier Part Number 1: ADCMP371AKS-REEL-ND; Supplier 2: Mouser; Supplier Part Number 2: 584-ADCMP371AKS-R; Packing: Reel; Voltage Supply (V): 2.25 to 5.5; Mounting Technology: Surface Mount; Code_JEDEC: MO-203-AA; ComponentLink1Description: Manufacturer URL; ComponentLink1URL: http://www.analog.com/en/index.html; ComponentLink2Description: Datasheet; ComponentLink2URL: http://www.analog.com/static/imported-files/data_sheets/ADCMP370_371.pdf; ComponentLink3Description: Package Specification; ComponentLink3URL: http://www.analog.com/static/imported-files/packages/PKG_PDF/SC70(KS)/KS_5.pdf; ComponentLink4Description: URL Link1; ComponentLink4URL: Product URL:http://www.analog.com/en/special-linear-functions/comparators/adcmp371/products/product.html; ComponentLink5Description: URL Link2; ComponentLink5URL: Reference Circuit:http://www.analog.com/en/special-linear-functions/comparators/adcmp371/products/product.html#product-recommendations
footprint ADI-KS-5_N (SOT23, 5-Leads, Body 2x1.25mm, Pitch 0.65mm, IPC Medium Density)
footprint ADI-KS-5_L (SOT23, 5-Leads, Body 2x1.25mm, Pitch 0.65mm, IPC High Density)
footprint ADI-KS-5_M (SOT23, 5-Leads, Body 2x1.25mm, Pitch 0.65mm, IPC Low Density)
pins: 1 IN+ (in) "Noninverting Input.", 2 GND (power) "Ground.", 3 IN- (in) "Inverting Input.", 4 OUT (out) "Comparator Output. Open drain for ADCMP370. Push-pull for ADCMP371.", 5 VCC (power) "Power Supply."

## ADCMP371AKS-REEL7
designator U?
General-Purpose Comparator, 2.25 to 5.5 V, 5 us Delay, Industrial, 5-pin SOT23 (KS-5), Reel; Manufacturer: Analog Devices; PartNumber: ADCMP371AKS-REEL7; Input Range (V): 0 to VCC; Supply Current: 4uA; DatasheetVersion: Rev. B; PackageVersion: 072809-A, 07/2009; PackageReference: KS-5; PackageDescription: 5-Pin Thin Shrink Small Outline Transistor Package, Body 2 x 1.25 mm, Pitch 0.65 mm; Supplier 1: Digi-Key; Supplier Part Number 1: ADCMP371AKS-REEL7TR-ND; Supplier 2: Digi-Key; Supplier Part Number 2: ADCMP371AKS-REEL7CT-ND; Supplier 3: Digi-Key; Supplier Part Number 3: ADCMP371AKS-REEL7DKR-ND; Supplier 4: Mouser; Supplier Part Number 4: 584-ADCMP371AKS-R7; Packing: Reel; Voltage Supply (V): 2.25 to 5.5; Mounting Technology: Surface Mount; Code_JEDEC: MO-203-AA; ComponentLink1Description: Manufacturer URL; ComponentLink1URL: http://www.analog.com/en/index.html; ComponentLink2Description: Datasheet; ComponentLink2URL: http://www.analog.com/static/imported-files/data_sheets/ADCMP370_371.pdf; ComponentLink3Description: Package Specification; ComponentLink3URL: http://www.analog.com/static/imported-files/packages/PKG_PDF/SC70(KS)/KS_5.pdf; ComponentLink4Description: URL Link1; ComponentLink4URL: Product URL:http://www.analog.com/en/special-linear-functions/comparators/adcmp371/products/product.html; ComponentLink5Description: URL Link2; ComponentLink5URL: Reference Circuit:http://www.analog.com/en/special-linear-functions/comparators/adcmp371/products/product.html#product-recommendations
footprint ADI-KS-5_N (SOT23, 5-Leads, Body 2x1.25mm, Pitch 0.65mm, IPC Medium Density)
footprint ADI-KS-5_L (SOT23, 5-Leads, Body 2x1.25mm, Pitch 0.65mm, IPC High Density)
footprint ADI-KS-5_M (SOT23, 5-Leads, Body 2x1.25mm, Pitch 0.65mm, IPC Low Density)
pins: 1 IN+ (in) "Noninverting Input.", 2 GND (power) "Ground.", 3 IN- (in) "Inverting Input.", 4 OUT (out) "Comparator Output. Open drain for ADCMP370. Push-pull for ADCMP371.", 5 VCC (power) "Power Supply."

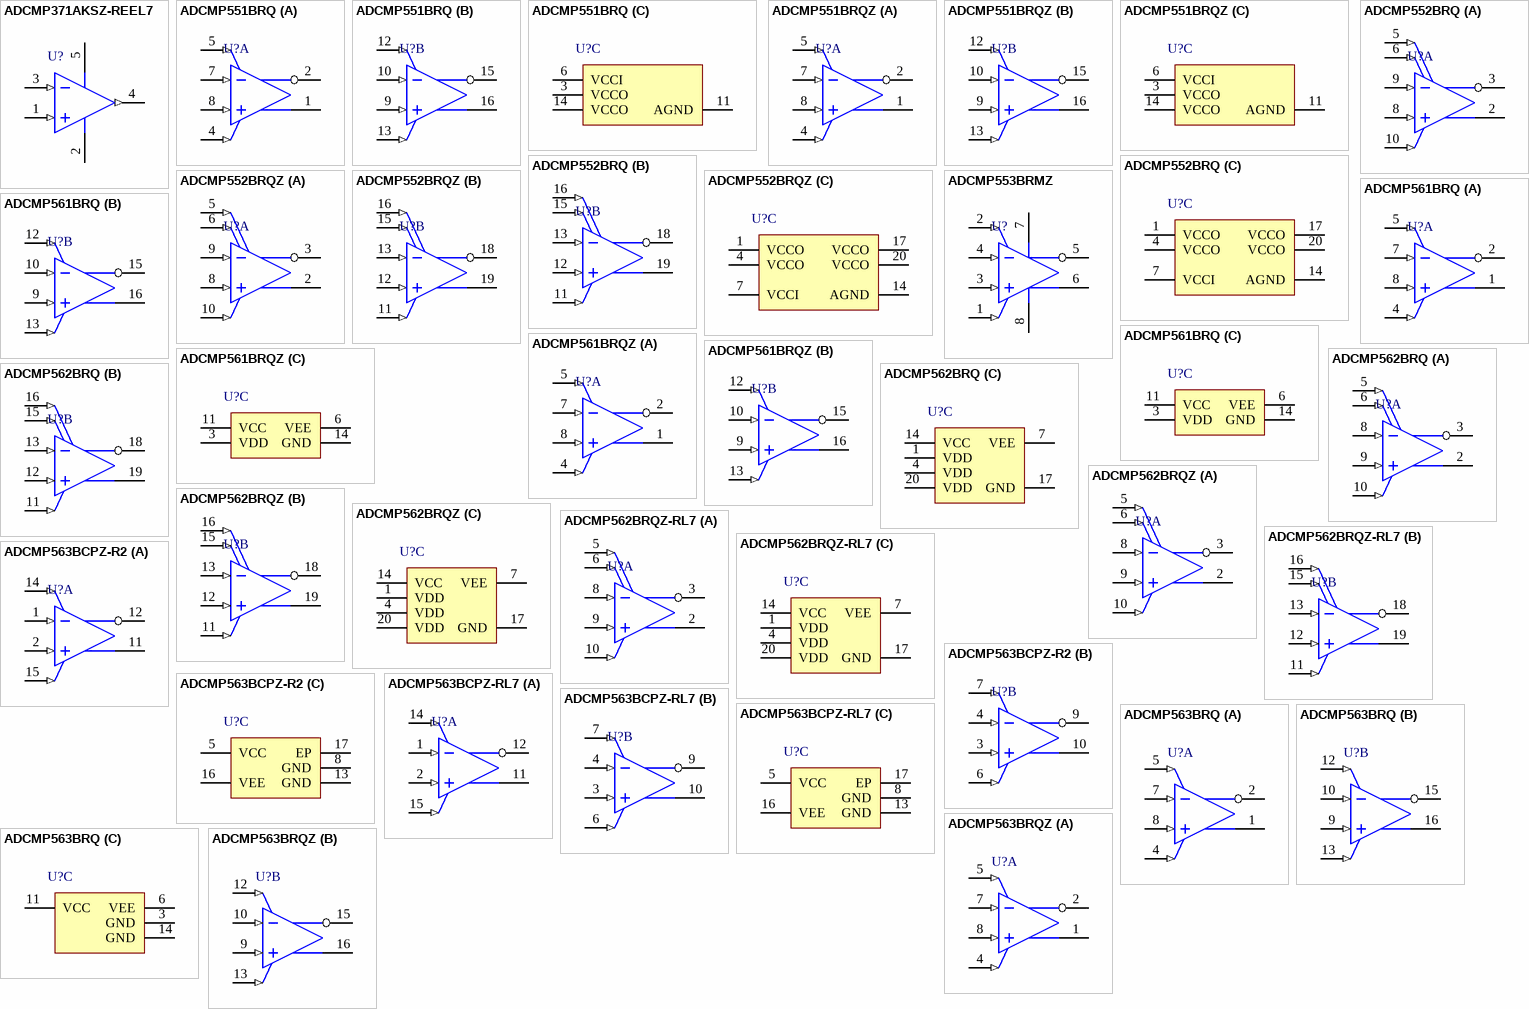
[diagram p3: symbols ADCMP371AKSZ-REEL7 to ADCMP563BRQZ]

## ADCMP371AKSZ-REEL7
designator U?
General-Purpose Comparator, 2.25 to 5.5 V, 5 us Delay, Industrial, 5-pin SOT23 (KS-5), Reel; Manufacturer: Analog Devices; PartNumber: ADCMP371AKSZ-REEL7; Input Range (V): 0 to VCC; Supply Current: 4uA; DatasheetVersion: Rev. B; PackageVersion: 072809-A, 07/2009; PackageReference: KS-5; PackageDescription: 5-Pin Thin Shrink Small Outline Transistor Package, Body 2 x 1.25 mm, Pitch 0.65 mm; Supplier 1: Digi-Key; Supplier Part Number 1: ADCMP371AKSZ-REEL7TR-ND; Supplier 2: Digi-Key; Supplier Part Number 2: ADCMP371AKSZ-REEL7CT-ND; Supplier 3: Digi-Key; Supplier Part Number 3: ADCMP371AKSZ-REEL7DKR-ND; Supplier 4: Farnell; Supplier Part Number 4: 2376801; Supplier 5: Mouser; Supplier Part Number 5: 584-ADCMP371AKSZR7; Packing: Reel; Voltage Supply (V): 2.25 to 5.5; Mounting Technology: Surface Mount; Code_JEDEC: MO-203-AA; ComponentLink1Description: Manufacturer URL; ComponentLink1URL: http://www.analog.com/en/index.html; ComponentLink2Description: Datasheet; ComponentLink2URL: http://www.analog.com/static/imported-files/data_sheets/ADCMP370_371.pdf; ComponentLink3Description: Package Specification; ComponentLink3URL: http://www.analog.com/static/imported-files/packages/PKG_PDF/SC70(KS)/KS_5.pdf; ComponentLink4Description: URL Link1; ComponentLink4URL: Product URL:http://www.analog.com/en/special-linear-functions/comparators/adcmp371/products/product.html; ComponentLink5Description: URL Link2; ComponentLink5URL: Reference Circuit:http://www.analog.com/en/special-linear-functions/comparators/adcmp371/products/product.html#product-recommendations
footprint ADI-KS-5_N (SOT23, 5-Leads, Body 2x1.25mm, Pitch 0.65mm, IPC Medium Density)
footprint ADI-KS-5_L (SOT23, 5-Leads, Body 2x1.25mm, Pitch 0.65mm, IPC High Density)
footprint ADI-KS-5_M (SOT23, 5-Leads, Body 2x1.25mm, Pitch 0.65mm, IPC Low Density)
pins: 1 IN+ (in) "Noninverting Input.", 2 GND (power) "Ground.", 3 IN- (in) "Inverting Input.", 4 OUT (out) "Comparator Output. Open drain for ADCMP370. Push-pull for ADCMP371.", 5 VCC (power) "Power Supply."

## ADCMP551BRQ
designator U?
Single-Supply, High Speed PECL / LVPECL Comparator, 3.3 to 5 V, 500 ps Delay, Industrial, 16-pin SOP (RQ-16), Tube; Manufacturer: Analog Devices; PartNumber: ADCMP551BRQ; Input Range (V): -0.2 to VCCI-2; Voltage Supply (V): 3.135 to 5.25; DatasheetVersion: Rev. 0; PackageVersion: Aug-05; PackageReference: RQ-16; PackageDescription: 16-Pin Shrink Small Outline Package, Body 4.9 x 3.9 mm, Pitch 0.64 mm; Supplier 1: Digi-Key; Supplier Part Number 1: ADCMP551BRQ-ND; Supplier 2: Mouser; Supplier Part Number 2: 584-ADCMP551BRQ; Packing: Tube; Mounting Technology: Surface Mount; Code_JEDEC: MO-137-AB; ComponentLink1Description: Manufacturer URL; ComponentLink1URL: http://www.analog.com/en/index.html; ComponentLink2Description: Datasheet; ComponentLink2URL: http://www.analog.com/static/imported-files/data_sheets/ADCMP551_552_553.pdf; ComponentLink3Description: Package Specification; ComponentLink3URL: http://www.analog.com/static/imported-files/packages/5595549651201762937RQ_16.pdf; ComponentLink4Description: URL Link1; ComponentLink4URL: Product URL:http://www.analog.com/en/special-linear-functions/comparators/adcmp551/products/product.html
footprint ADI-RQ-16_N (SOP, 16-Leads, Body 4.9x3.9mm, Pitch 0.64mm, IPC Medium Density)
footprint ADI-RQ-16_L (SOP, 16-Leads, Body 4.9x3.9mm, Pitch 0.64mm, IPC High Density)
footprint ADI-RQ-16_M (SOP, 16-Leads, Body 4.9x3.9mm, Pitch 0.64mm, IPC Low Density)
part A pins: 1 QA (oe) "One of Two Complementary Outputs for Channel A. QA is logic high if the analog voltage at the noninverting input is greater than the analog voltage at the inverting input (provided the comparator is in the compare mode). See (See Datasheet)", 2 ~{QA} (oe) "One of Two Complementary Outputs for Channel A. Q\A\ is logic low if the analog voltage at the noninverting input is greater than the analog voltage at the inverting input (provided the comparator is in the compare mode). (See Datasheet)", 4 LEA (in) "One of Two Complementary Outputs for Channel A Latch Enable. In the compare mode (logic high), the output tracks changes at the input of the comparator. In the latch mode (logic low), the output reflects the input state just (See Datasheet)", 5 ~{LEA} (in) "One of Two Complementary Outputs for Channel A Latch Enable. In the compare mode (logic high), the output tracks changes at the input of the comparator. In the latch mode (logic low), the output reflects the input state just (See Datasheet)", 7 -INA (in) "Inverting Analog Input of the Differential Input Stage for Channel A. The inverting A input must be driven in conjunction with the noninverting A input.", 8 +INA (in) "Noninverting Analog Input of the Differential Input Stage for Channel A. The noninverting A input must be driven in conjunction with the inverting A input."
part B pins: 9 +INB (in) "Noninverting Analog Input of the Differential Input Stage for Channel B. The noninverting B input must be driven in conjunction with the inverting B input.", 10 -INB (in) "Inverting Analog Input of the Differential Input Stage for Channel B. The inverting B input must be driven in conjunction with the noninverting B input.", 12 ~{LEB} (in) "One of Two Complementary Inputs for Channel B Latch Enable. In the compare mode (logic low), the output tracks changes at the input of the comparator. In the latch mode (logic high), the output reflects the input state just (See Datasheet)", 13 LEB (in) "One of Two Complementary Inputs for Channel B Latch Enable. In the compare mode (logic low), the output tracks changes at the input of the comparator. In the latch mode (logic high), the output reflects the input state just (See Datasheet)", 15 ~{QB} (oe) "One of Two Complementary Outputs for Channel B. Q\B\ is logic low if the analog voltage at the noninverting input is greater than the analog voltage at the inverting input (provided the comparator is in the compare mode). (See Datasheet)", 16 QB (oe) "One of Two Complementary Outputs for Channel B. QB is logic low if the analog voltage at the noninverting input is greater than the analog voltage at the inverting input (provided the comparator is in the compare mode). See (See Datasheet)"
part C pins: 3 VCCO (power) "Logic Supply Terminal.", 6 VCCI (power) "Input Supply Terminal.", 11 AGND (power) "Analog Ground.", 14 VCCO (power) "Logic Supply Terminal."